# EAGLE library part RT2862 (library vreg-linear)
IC REG BUCK ADJ 3A SYNC
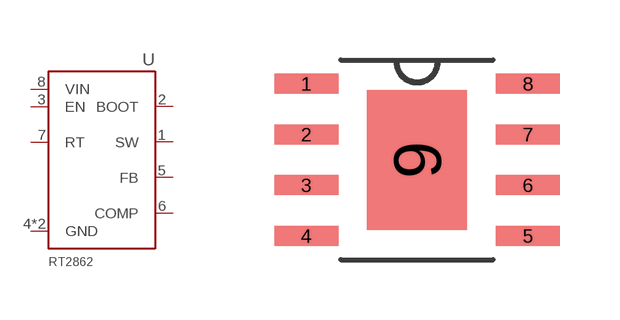
[diagram p10: symbol with the pads of SOIC8-EP; footprint SOIC8-EP]

Designator prefix U

## RT2862 (DIGIKEY: 1028-1373-1-ND; MFR: Richtek; MPN: RT2862GSP; P1I: o)  [SOIC8-EP]
1  SW
2  BOOT
3  EN
4  GND
5  FB
6  COMP
7  RT
8  VIN
9  GND

## Footprint SOIC8-EP (pad centres in mm)
smd 1.6 x 0.5: 1 -2.773,1.905; 2 -2.773,0.635; 3 -2.773,-0.635; 4 -2.773,-1.905; 5 2.773,-1.905; 6 2.773,-0.635; 7 2.773,0.635; 8 2.773,1.905
smd 2.5 x 3.5: 9 0,0